# EAGLE library part TRANS_FLYBACK_AUX_SINGLE_OUT (library __MyCommonLib1)
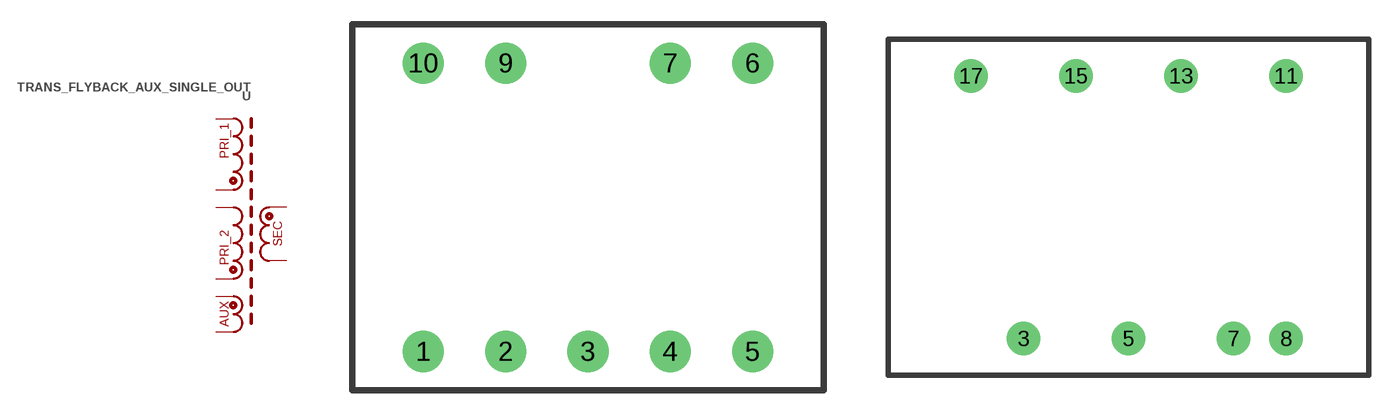
[diagram p20: symbol with the pads of TRANS_29.5X23_1234567_910; footprints TRANS_29.5X23_1234567_910, TRANS_37X26_3578_11_13_15_17]

Designator prefix -

## TRANS_FLYBACK_AUX_SINGLE_OUT(TRANS29.5X23)  [TRANS_29.5X23_1234567_910]
1  PRI1_START
2  PRI1_END
4  AUX_START
5  AUX_END
6  SEC_END
7  SEC_START
9  PRI2_END
10  PRI2_START

## TRANS_FLYBACK_AUX_SINGLE_OUT(TRANS_37X26)  [TRANS_37X26_3578_11_13_15_17]
3  PRI1_START
5  PRI1_END
7  AUX_START
8  AUX_END
11  SEC_END
13  SEC_START
15  PRI2_END
17  PRI2_START

## TRANS_FLYBACK_AUX_SINGLE_OUT(ETD39-HORIZONTAL)  [ETD29_HOR]
1  PRI1_END
2  PRI1_START
3  PRI2_END
4  PRI2_START
6  AUX_END
7  AUX_START
9  SEC_START
10  SEC_START
12  SEC_END
13  SEC_END

## Footprint TRANS_29.5X23_1234567_910 (pad centres in mm)
drill 1 pad 2.54: 1 -10.16,-8.9; 2 -5.08,-8.9; 3 0,-8.9; 4 5.08,-8.9; 5 10.16,-8.9; 6 10.16,8.9; 7 5.08,8.9; 9 -5.08,8.9; 10 -10.16,8.9

## Footprint TRANS_37X26_3578_11_13_15_17 (pad centres in mm)
drill 1 pad 2.54: 3 -8,-10; 5 0,-10; 7 8,-10; 8 12,-10; 11 12,10; 13 4,10; 15 -4,10; 17 -12,10

## Footprint ETD29_HOR (pad centres in mm)
drill 1 pad 2.5 square: 1 -12.7,15
drill 1 pad 2.5: 2 -12.7,10; 3 -12.7,5; 4 -12.7,0; 5 -12.7,-5; 6 -12.7,-10; 7 -12.7,-15; 8 12.7,-15; 9 12.7,-10; 10 12.7,-5; 11 12.7,0; 12 12.7,5; 13 12.7,10; 14 12.7,15